# Altium footprint library CONN-SPE-428203213_MOLEX.PcbLib: 1 footprints
Each footprint in its own frame and in the unit in brackets; x right, y up, seen from the top. Pads: shape width x height; smd on the part's side, far side on the other; paste and mask are expansions set on the pad; w line width, h text height; cw(c..) or ccw(c..) is an arc to the next point about the centre after c.
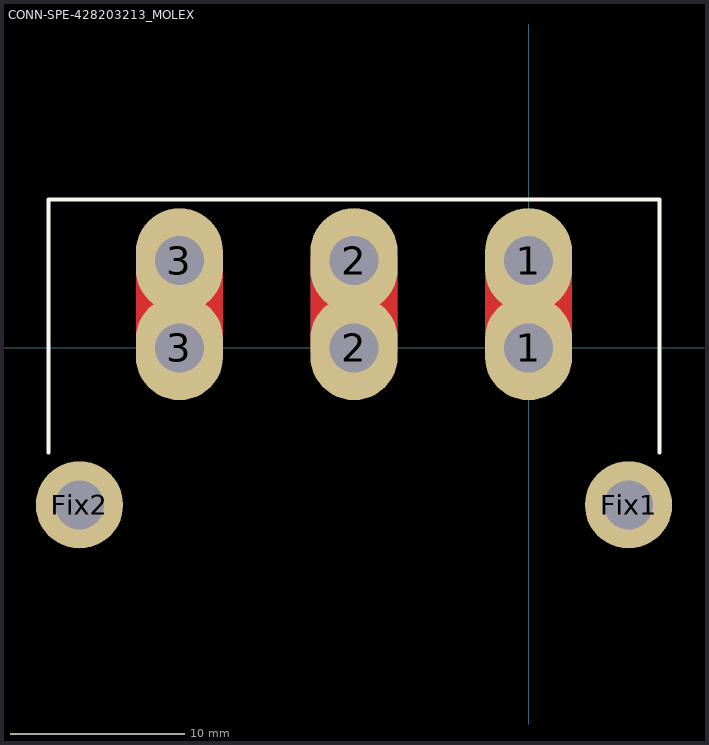
[diagram p0: the footprint, top view; thin cyan lines are the x and y axes]

## CONN-SPE-428203213_MOLEX [mm]
pads (8):
  oval 5x6 hole 2.8: 1(0,0) 1(0,5) 2(-10,0) 2(-10,5) 3(-20,0) 3(-20,5)
  round 5 hole 2.8: Fix1(5.73,-9) Fix2(-25.73,-9)
Top Layer:
  lines w5: -20,0 -20,5 ; -10,0 -10,5 ; 0,0 0,5
Bottom Layer:
  lines w5: -20,0 -20,5 ; -10,0 -10,5 ; 0,0 0,5
Top Overlay:
  lines w0.25: -27.5,-6 -27.5,8.5 -10,8.5 7.5,8.5 7.5,-6
3D body: height 14, standoff -3.55, extent -26.82,-22.275 7,6.075